# Altium footprint library PCB - CONNECTOR - SAMTEC FTS-145-01-X-D.PCBLIB: 1 footprints
Each footprint in its own frame and in the unit in brackets; x right, y up, seen from the top. Pads: shape width x height; smd on the part's side, far side on the other; paste and mask are expansions set on the pad; w line width, h text height; cw(c..) or ccw(c..) is an arc to the next point about the centre after c.
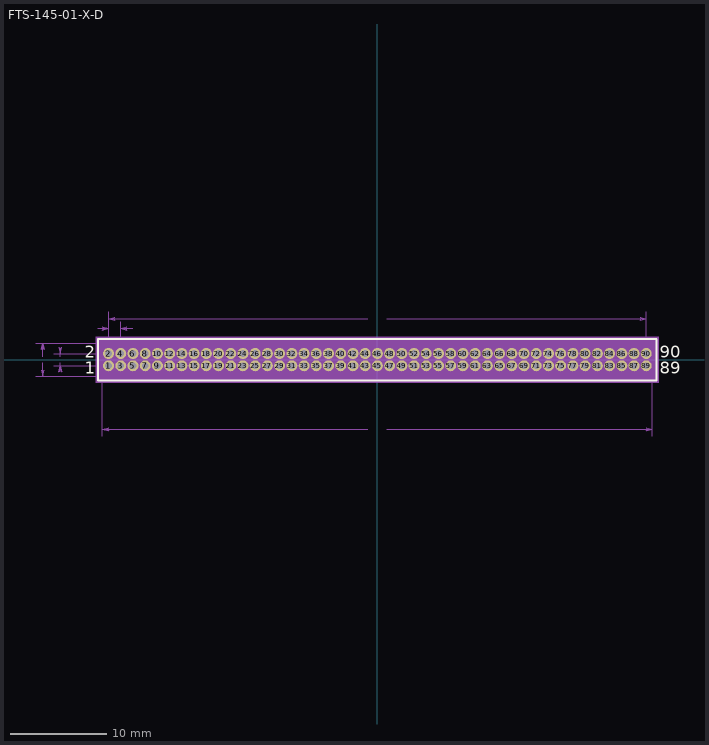
[diagram p0: the footprint, top view; thin cyan lines are the x and y axes]

## FTS-145-01-X-D [mil]
pads (90):
  round 45 hole 27.95 mask+0: 1(-1100,-25) 2(-1100,25) 3(-1050,-25) 4(-1050,25) 5(-1000,-25) 6(-1000,25) 7(-950,-25) 8(-950,25) 9(-900,-25) 10(-900,25) 11(-850,-25) 12(-850,25) 13(-800,-25) 14(-800,25) 15(-750,-25) 16(-750,25) 17(-700,-25) 18(-700,25) 19(-650,-25) 20(-650,25) 21(-600,-25) 22(-600,25) 23(-550,-25) 24(-550,25) 25(-500,-25) 26(-500,25) 27(-450,-25) 28(-450,25) 29(-400,-25) 30(-400,25) 31(-350,-25) 32(-350,25) 33(-300,-25) 34(-300,25) 35(-250,-25) 36(-250,25) 37(-200,-25) 38(-200,25) 39(-150,-25) 40(-150,25) 41(-100,-25) 42(-100,25) 43(-50,-25) 44(-50,25) 45(0,-25) 46(0,25) 47(50,-25) 48(50,25) 49(100,-25) 50(100,25) 51(150,-25) 52(150,25) 53(200,-25) 54(200,25) 55(250,-25) 56(250,25) 57(300,-25) 58(300,25) 59(350,-25) 60(350,25) 61(400,-25) 62(400,25) 63(450,-25) 64(450,25) 65(500,-25) 66(500,25) 67(550,-25) 68(550,25) 69(600,-25) 70(600,25) 71(650,-25) 72(650,25) 73(700,-25) 74(700,25) 75(750,-25) 76(750,25) 77(800,-25) 78(800,25) 79(850,-25) 80(850,25) 81(900,-25) 82(900,25) 83(950,-25) 84(950,25) 85(1000,-25) 86(1000,25) 87(1050,-25) 88(1050,25) 89(1100,-25) 90(1100,25)
Top Overlay:
  lines w7.87: -1142.72,-85.24 -1142.72,85.24 1142.72,85.24 1142.72,-85.24 -1142.72,-85.24
  text "1" at -1196.65,-57.01 h50
  text "2" at -1196.65,7.01 h50
  text "89" at 1156.14,-57.01 h50
  text "90" at 1156.14,7.01 h50
Top Solder:
  circle w0: c-1100,-25 r24.49
  circle w0: c-1100,25 r24.49
  circle w0: c-1050,-25 r24.49
  circle w0: c-1050,25 r24.49
  circle w0: c-1000,-25 r24.49
  circle w0: c-1000,25 r24.49
  circle w0: c-950,-25 r24.49
  circle w0: c-950,25 r24.49
  circle w0: c-900,-25 r24.49
  circle w0: c-900,25 r24.49
  circle w0: c-850,-25 r24.49
  circle w0: c-850,25 r24.49
  circle w0: c-800,-25 r24.49
  circle w0: c-800,25 r24.49
  circle w0: c-750,-25 r24.49
  circle w0: c-750,25 r24.49
  circle w0: c-700,-25 r24.49
  circle w0: c-700,25 r24.49
  circle w0: c-650,-25 r24.49
  circle w0: c-650,25 r24.49
  circle w0: c-600,-25 r24.49
  circle w0: c-600,25 r24.49
  circle w0: c-550,-25 r24.49
  circle w0: c-550,25 r24.49
  circle w0: c-500,-25 r24.49
  circle w0: c-500,25 r24.49
  circle w0: c-450,-25 r24.49
  circle w0: c-450,25 r24.49
  circle w0: c-400,-25 r24.49
  circle w0: c-400,25 r24.49
  circle w0: c-350,-25 r24.49
  circle w0: c-350,25 r24.49
  circle w0: c-300,-25 r24.49
  circle w0: c-300,25 r24.49
  circle w0: c-250,-25 r24.49
  circle w0: c-250,25 r24.49
  circle w0: c-200,-25 r24.49
  circle w0: c-200,25 r24.49
  circle w0: c-150,-25 r24.49
  circle w0: c-150,25 r24.49
  circle w0: c-100,-25 r24.49
  circle w0: c-100,25 r24.49
  circle w0: c-50,-25 r24.49
  circle w0: c-50,25 r24.49
  circle w0: c0,-25 r24.49
  circle w0: c0,25 r24.49
  circle w0: c50,-25 r24.49
  circle w0: c50,25 r24.49
  circle w0: c100,-25 r24.49
  circle w0: c100,25 r24.49
  circle w0: c150,-25 r24.49
  circle w0: c150,25 r24.49
  circle w0: c200,-25 r24.49
  circle w0: c200,25 r24.49
  circle w0: c250,-25 r24.49
  circle w0: c250,25 r24.49
  circle w0: c300,-25 r24.49
  circle w0: c300,25 r24.49
  circle w0: c350,-25 r24.49
  circle w0: c350,25 r24.49
  circle w0: c400,-25 r24.49
  circle w0: c400,25 r24.49
  circle w0: c450,-25 r24.49
  circle w0: c450,25 r24.49
  circle w0: c500,-25 r24.49
  circle w0: c500,25 r24.49
  circle w0: c550,-25 r24.49
  circle w0: c550,25 r24.49
  circle w0: c600,-25 r24.49
  circle w0: c600,25 r24.49
  circle w0: c650,-25 r24.49
  circle w0: c650,25 r24.49
  circle w0: c700,-25 r24.49
  circle w0: c700,25 r24.49
  circle w0: c750,-25 r24.49
  circle w0: c750,25 r24.49
  circle w0: c800,-25 r24.49
  circle w0: c800,25 r24.49
  circle w0: c850,-25 r24.49
  circle w0: c850,25 r24.49
  circle w0: c900,-25 r24.49
  circle w0: c900,25 r24.49
  circle w0: c950,-25 r24.49
  circle w0: c950,25 r24.49
  circle w0: c1000,-25 r24.49
  circle w0: c1000,25 r24.49
  circle w0: c1050,-25 r24.49
  circle w0: c1050,25 r24.49
  circle w0: c1100,-25 r24.49
  circle w0: c1100,25 r24.49
Bottom Solder:
  circle w0: c-1100,-25 r24.49
  circle w0: c-1100,25 r24.49
  circle w0: c-1050,-25 r24.49
  circle w0: c-1050,25 r24.49
  circle w0: c-1000,-25 r24.49
  circle w0: c-1000,25 r24.49
  circle w0: c-950,-25 r24.49
  circle w0: c-950,25 r24.49
  circle w0: c-900,-25 r24.49
  circle w0: c-900,25 r24.49
  circle w0: c-850,-25 r24.49
  circle w0: c-850,25 r24.49
  circle w0: c-800,-25 r24.49
  circle w0: c-800,25 r24.49
  circle w0: c-750,-25 r24.49
  circle w0: c-750,25 r24.49
  circle w0: c-700,-25 r24.49
  circle w0: c-700,25 r24.49
  circle w0: c-650,-25 r24.49
  circle w0: c-650,25 r24.49
  circle w0: c-600,-25 r24.49
  circle w0: c-600,25 r24.49
  circle w0: c-550,-25 r24.49
  circle w0: c-550,25 r24.49
  circle w0: c-500,-25 r24.49
  circle w0: c-500,25 r24.49
  circle w0: c-450,-25 r24.49
  circle w0: c-450,25 r24.49
  circle w0: c-400,-25 r24.49
  circle w0: c-400,25 r24.49
  circle w0: c-350,-25 r24.49
  circle w0: c-350,25 r24.49
  circle w0: c-300,-25 r24.49
  circle w0: c-300,25 r24.49
  circle w0: c-250,-25 r24.49
  circle w0: c-250,25 r24.49
  circle w0: c-200,-25 r24.49
  circle w0: c-200,25 r24.49
  circle w0: c-150,-25 r24.49
  circle w0: c-150,25 r24.49
  circle w0: c-100,-25 r24.49
  circle w0: c-100,25 r24.49
  circle w0: c-50,-25 r24.49
  circle w0: c-50,25 r24.49
  circle w0: c0,-25 r24.49
  circle w0: c0,25 r24.49
  circle w0: c50,-25 r24.49
  circle w0: c50,25 r24.49
  circle w0: c100,-25 r24.49
  circle w0: c100,25 r24.49
  circle w0: c150,-25 r24.49
  circle w0: c150,25 r24.49
  circle w0: c200,-25 r24.49
  circle w0: c200,25 r24.49
  circle w0: c250,-25 r24.49
  circle w0: c250,25 r24.49
  circle w0: c300,-25 r24.49
  circle w0: c300,25 r24.49
  circle w0: c350,-25 r24.49
  circle w0: c350,25 r24.49
  circle w0: c400,-25 r24.49
  circle w0: c400,25 r24.49
  circle w0: c450,-25 r24.49
  circle w0: c450,25 r24.49
  circle w0: c500,-25 r24.49
  circle w0: c500,25 r24.49
  circle w0: c550,-25 r24.49
  circle w0: c550,25 r24.49
  circle w0: c600,-25 r24.49
  circle w0: c600,25 r24.49
  circle w0: c650,-25 r24.49
  circle w0: c650,25 r24.49
  circle w0: c700,-25 r24.49
  circle w0: c700,25 r24.49
  circle w0: c750,-25 r24.49
  circle w0: c750,25 r24.49
  circle w0: c800,-25 r24.49
  circle w0: c800,25 r24.49
  circle w0: c850,-25 r24.49
  circle w0: c850,25 r24.49
  circle w0: c900,-25 r24.49
  circle w0: c900,25 r24.49
  circle w0: c950,-25 r24.49
  circle w0: c950,25 r24.49
  circle w0: c1000,-25 r24.49
  circle w0: c1000,25 r24.49
  circle w0: c1050,-25 r24.49
  circle w0: c1050,25 r24.49
  circle w0: c1100,-25 r24.49
  circle w0: c1100,25 r24.49
Mechanical 13:
  drawing of 566 lines, arcs and shapes, not listed
  text "3.429" at -1395.98,-5 h10
  text "1.270" at -1323.5,-5 h10
  text "1" at -1196.65,-57.01 h50
  text "2" at -1196.65,7.01 h50
  text "1.270" at -1203.5,122.52 h10
  text "57.150" at -31.5,-290 h10
  text "55.880" at -31.5,162.52 h10
  text "89" at 1156.14,-57.01 h50
  text "90" at 1156.14,7.01 h50
Mechanical 15:
  region: 1151.97,-94.49 -1151.97,-94.49 -1151.97,94.49 1151.97,94.49
3D body "FTS-145-01-L-D.stp": height 154, standoff -90, extent -1125,-67.5 1125,67.5